# EAGLE library part LOGIC,DELAYLINE,SER_DUAL#2 (library QuantumOptics)
Delay line, dual, serial, such as ON Semi NB6L295.
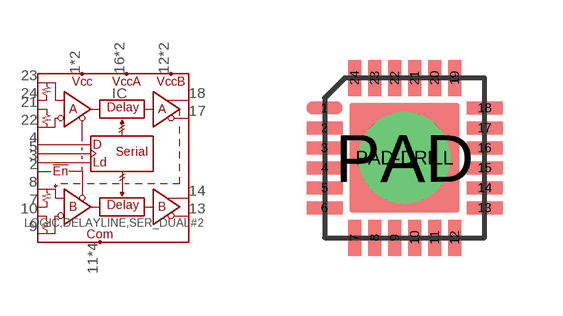
[diagram p194: symbol with the pads of QFN24; footprint QFN24]

Designator prefix IC

## LOGIC,DELAYLINE,SER_DUAL#2-QFN24  [QFN24]
1  VCC
2  !EN  in
3  LD  in
4  DATA  in
5  CLK  in
6  VCC
7  VTB  in
8  INB  in
9  !INB  in
10  !VTB  in
11  COM
12  VCCB
13  !QB  out
14  QB  out
15  VCCB
16  VCCA
17  !QA  out
18  QA  out
19  VCCA
20  COM
21  !VTA  in
22  !INA  in
23  INA  in
24  VTA  in
PAD  COM
PAD-DRILL  COM

## Footprint QFN24 (pad centres in mm)
QFN-24 with exposed pad, from Micrel SY89297U and ON Semi NB6L295. Set for 0.18mm (0.0071") track and space.
smd 0.9 x 0.325: 1 -2,1.25; 2 -2,0.75; 3 -2,0.25; 4 -2,-0.25; 5 -2,-0.75; 6 -2,-1.25; 13 2,-1.25; 14 2,-0.75; 15 2,-0.25; 16 2,0.25; 17 2,0.75; 18 2,1.25
smd 0.325 x 0.9: 7 -1.25,-2; 8 -0.75,-2; 9 -0.25,-2; 10 0.25,-2; 11 0.75,-2; 12 1.25,-2; 19 1.25,2; 20 0.75,2; 21 0.25,2; 22 -0.25,2; 23 -0.75,2; 24 -1.25,2
smd 2.74 x 2.74: PAD 0,0
drill 1.524: PAD-DRILL 0,0